# EAGLE library part NMOS_FDMS86104 (library DSDEagleLibrary)
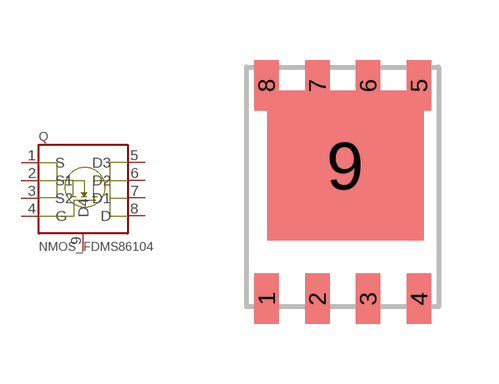
[diagram p29: symbol with the pads of 8-PQFN; footprint 8-PQFN]

Designator prefix Q

## NMOS_FDMS86104  [8-PQFN]
1  S
2  S1
3  S2
4  G
5  D3
6  D2
7  D1
8  D
9  D4

## Footprint 8-PQFN (pad centres in mm)
smd 0.61 x 1.27: 1 0,0; 2 1.27,0; 3 2.54,0; 4 3.81,0; 5 3.81,5.34; 6 2.54,5.34; 7 1.27,5.34; 8 0,5.34
smd 3.91 x 3.75: 9 1.97,3.33